# EAGLE library part MICRO-USB (library VESC_SHIT)
Conn Micro USB Type B RCP 5 POS 0.65mm Solder ST SMD 5 Terminal 1 Port Embossed T/R
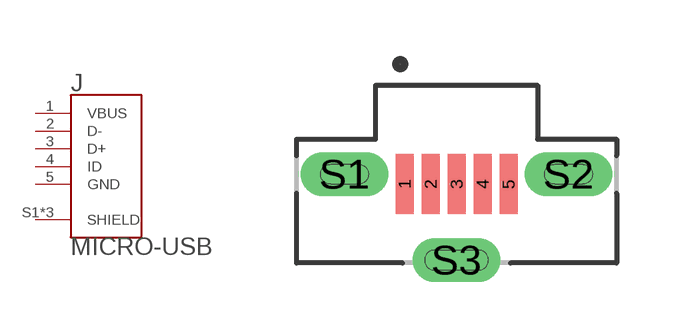
[diagram p2: symbol with the pads of MOLEX_105133-0011; footprint MOLEX_105133-0011]

Designator prefix J

## MICRO-USB (AVAILABILITY: Unavailable; DESCRIPTION: Conn Micro USB Type B RCP 5 POS 0.65mm Solder ST SMD 5 Terminal 1 Port Embossed T/R; MF: Molex; MP: 1051330011; PACKAGE: None; PRICE: None)  [MOLEX_105133-0011]
1  VBUS  pas
2  D-  pas
3  D+  pas
4  ID  pas
5  GND  pas
S1  SHIELD  pas
S2  SHIELD  pas
S3  SHIELD  pas

## Footprint MOLEX_105133-0011 (pad centres in mm)
Conn Micro USB Type B RCP 5 POS 0.65mm Solder ST SMD 5 Terminal 1 Port Embossed T/R
smd 0.45 x 1.5: 1 -1.3,-0.25; 2 -0.65,-0.25; 3 0,-0.25; 4 0.65,-0.25; 5 1.3,-0.25
drill 0.5 pad 1.1 long: S1 -2.8,0; S2 2.8,0; S3 0,-2.15